# Altium schematic symbol library Voltage Regulators Through Hole.SchLib: 3 symbols
Pins are listed as number, name and electrical type; pins without a type are passive.

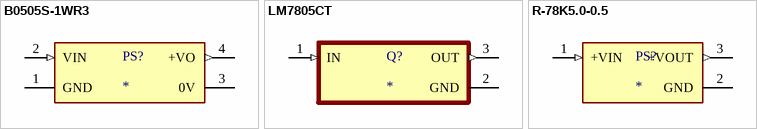
[diagram p0: symbols B0505S-1WR3 to R-78K5.0-0.5]

## B0505S-1WR3
designator PS?
Isolated Module DC DC Converter 1 Output 5V - - - 200mA 4.5V - 5.5V Input; MF: Mornsun America, LLC; MP: B0505S-1WR3; Value: *; Price: None; Package: SIP-4-4 MORNSUN; Check_prices: https://www.snapeda.com/parts/B0505S-1WR3/MORNSUN/view-part/?ref=eda; Availability: In Stock; SnapEDA_Link: https://www.snapeda.com/parts/B0505S-1WR3/MORNSUN/view-part/?ref=snap; Purchase-URL: https://pricing.snapeda.com/search/part/B0505S-1WR3/?ref=eda
footprint B0505S-1W
pins: 1 GND (power), 2 VIN (in), 3 0V, 4 +VO (out)

## LM7805CT
designator Q?
MP: LM7805CT/NOPB; Price: None; Availability: Unavailable; Value: *; Package: None
footprint LM7805CT
pins: 1 IN (in), 2 GND (power), 3 OUT (out)

## R-78K5.0-0.5
designator PS?
0.5A DC/DC-Converter 'INNOLINE' SIP3 reg; MF: Recom Power; MP: R-78K5.0-0.5; Package: None; Value: *; Check_prices: https://www.snapeda.com/parts/R-78K5.0-0.5/Recom+Power/view-part/?ref=eda; Purchase-URL: https://pricing.snapeda.com/search/part/R-78K5.0-0.5/?ref=eda; Availability: In Stock; SnapEDA_Link: https://www.snapeda.com/parts/R-78K5.0-0.5/Recom+Power/view-part/?ref=snap; Price: None
footprint CONV_R-78K5.0-0.5
pins: 1 +VIN (in), 2 GND (power), 3 +VOUT (out)